# Altium footprint library Trans_Vishay_IRF540PBF_eec_0.PcbLib: 1 footprints
Each footprint in its own frame and in the unit in brackets; x right, y up, seen from the top. Pads: shape width x height; smd on the part's side, far side on the other; paste and mask are expansions set on the pad; w line width, h text height; cw(c..) or ccw(c..) is an arc to the next point about the centre after c.
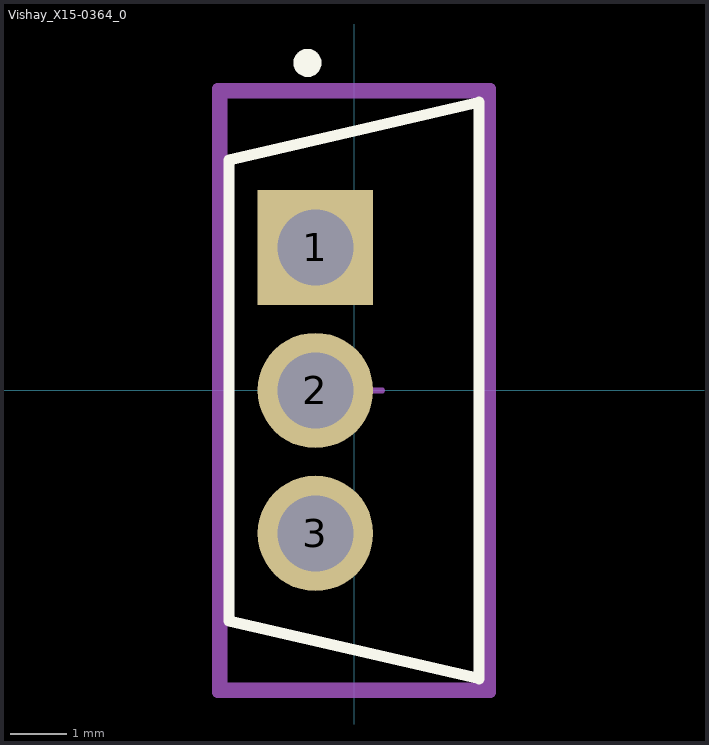
[diagram p0: the footprint, top view; thin cyan lines are the x and y axes]

## Vishay_X15-0364_0 [mm]
pads (3):
  rect 2.05x2.05 hole 1.35 paste-1000 mask+0: 1(-0.685,2.54)
  round 2.05 hole 1.35 paste-1000 mask+0: 2(-0.685,0) 3(-0.685,-2.54)
Top Overlay:
  circle w0.25: c-0.825,5.82 r0.125
  lines w0.2: 2.222,-5.12 -2.222,-4.096 -2.222,4.096 2.222,5.12 ; 2.222,-5.07 2.222,5.07
Mechanical 10:
  lines w0.2: -2.425,-5.36 2.425,-5.36 2.425,5.36 -2.425,5.36 -2.425,-5.36
  text ".Designator" at 0,0 h1
Mechanical 12:
  lines w0.15: -2.325,-5.26 2.325,-5.26 2.325,5.26 -2.325,5.26 -2.325,-5.26
Mechanical 15:
  lines w0.1: -0.5,0 0.5,0 ; 0,-0.5 0,0.5
  lines w0.2: -2.425,-5.36 2.425,-5.36 2.425,5.36 -2.425,5.36 -2.425,-5.36
3D body "Trans_Vishay_IRF540PBF_eec.STEP": height 0.25, standoff 0, extent -2.425,-5.36 2.425,5.36